# Altium footprint library Antennas.PcbLib: 17 footprints (part 2 of 2)
Each footprint in its own frame and in the unit in brackets; x right, y up, seen from the top. Pads: shape width x height; smd on the part's side, far side on the other; paste and mask are expansions set on the pad; w line width, h text height; cw(c..) or ccw(c..) is an arc to the next point about the centre after c.
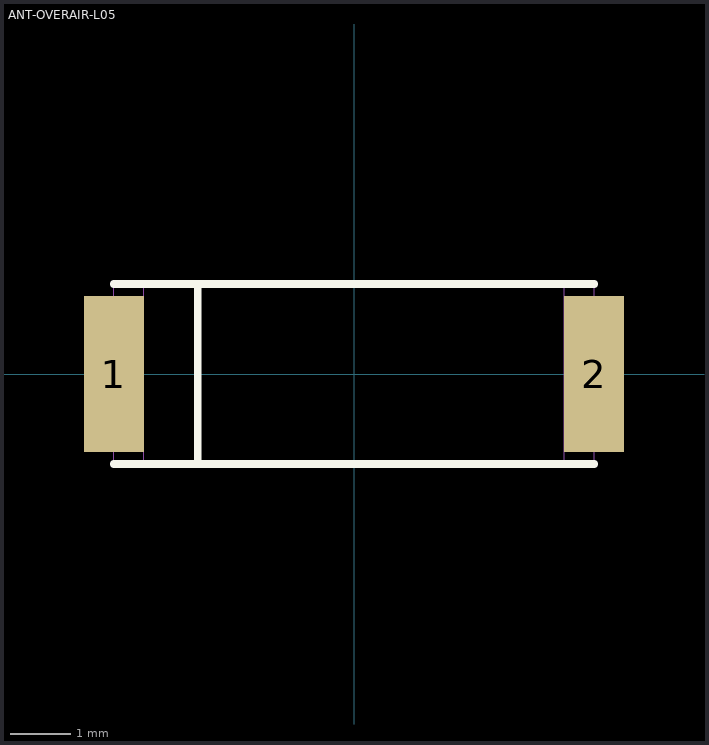
[diagram p1: the footprint, top view; thin cyan lines are the x and y axes]

## ANT-OVERAIR-L05 [mm]
pads (2):
  rect 1x2.6 smd mask+0.1: 1(-4,0) 2(4,0)
Top Overlay:
  lines w0.127: -4,-1.5 4,-1.5 ; -4,1.5 4,1.5 ; -2.966,1.5 -2.601,1.5 -2.601,-1.5
Mechanical 13:
  lines w0.013: -3.5,-1.5 -3.5,1.5 ; 3.5,-1.5 3.5,1.5 ; -4,-1.5 -4,1.5 4,1.5 4,-1.5 -4,-1.5